# Altium schematic symbol library Schlib1.SchLib: 6 symbols
Pins are listed as number, name and electrical type; pins without a type are passive.

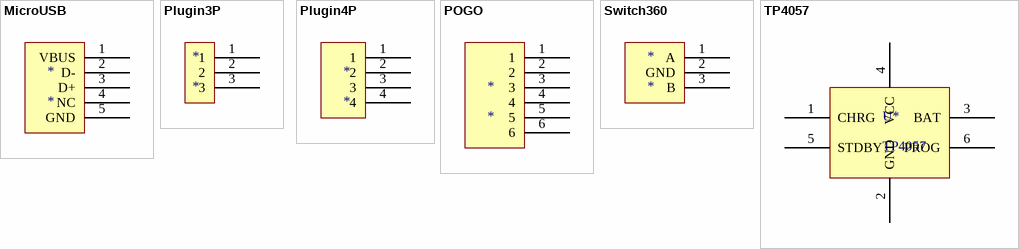
[diagram p0: symbols MicroUSB to TP4057]

## MicroUSB
designator *
pins: 1 VBUS, 2 D-, 3 D+, 4 NC, 5 GND

## Plugin3P
designator *
pins: 1, 2, 3

## Plugin4P
designator *
pins: 1, 2, 3, 4

## POGO
designator *
pins: 1, 2, 3, 4, 5, 6

## Switch360
designator *
pins: 1 A, 2 GND, 3 B

## TP4057
designator U*
footprint TP4057
pins: 1 CHRG, 2 GND (power), 3 BAT, 4 VCC (power), 5 STDBY, 6 PROG